# Altium schematic symbol library CAP 0.22uF 16V.Schlib: 1 symbol
Pins are listed as number, name and electrical type; pins without a type are passive.

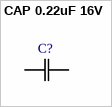
[diagram p0: symbol CAP 0.22uF 16V]

## CAP 0.22uF 16V
designator C?
CAP CER 0.22UF 16V X5R 0603/0805
pins: 1 C1, 2 C2